# Altium schematic symbol library SCH - FET - N-CH - DIODES INC N-CHANNEL COMMON DRAIN.SCHLIB: 1 symbol
Pins are listed as number, name and electrical type; pins without a type are passive.

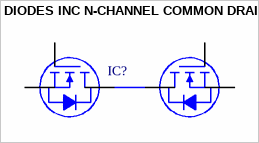
[diagram p0: symbol DIODES INC N-CHANNEL COMMON DRAIN]

## DIODES INC N-CHANNEL COMMON DRAIN
designator IC?
pins: 1 D1, 1 D1, 2 S1, 3 S1, 4 G1, 5 G2, 6 S2, 7 S2, 8 D2, 8 D2